# Altium footprint library Bare 1.27mm headers.PcbLib: 13 footprints
Each footprint in its own frame and in the unit in brackets; x right, y up, seen from the top. Pads: shape width x height; smd on the part's side, far side on the other; paste and mask are expansions set on the pad; w line width, h text height; cw(c..) or ccw(c..) is an arc to the next point about the centre after c.
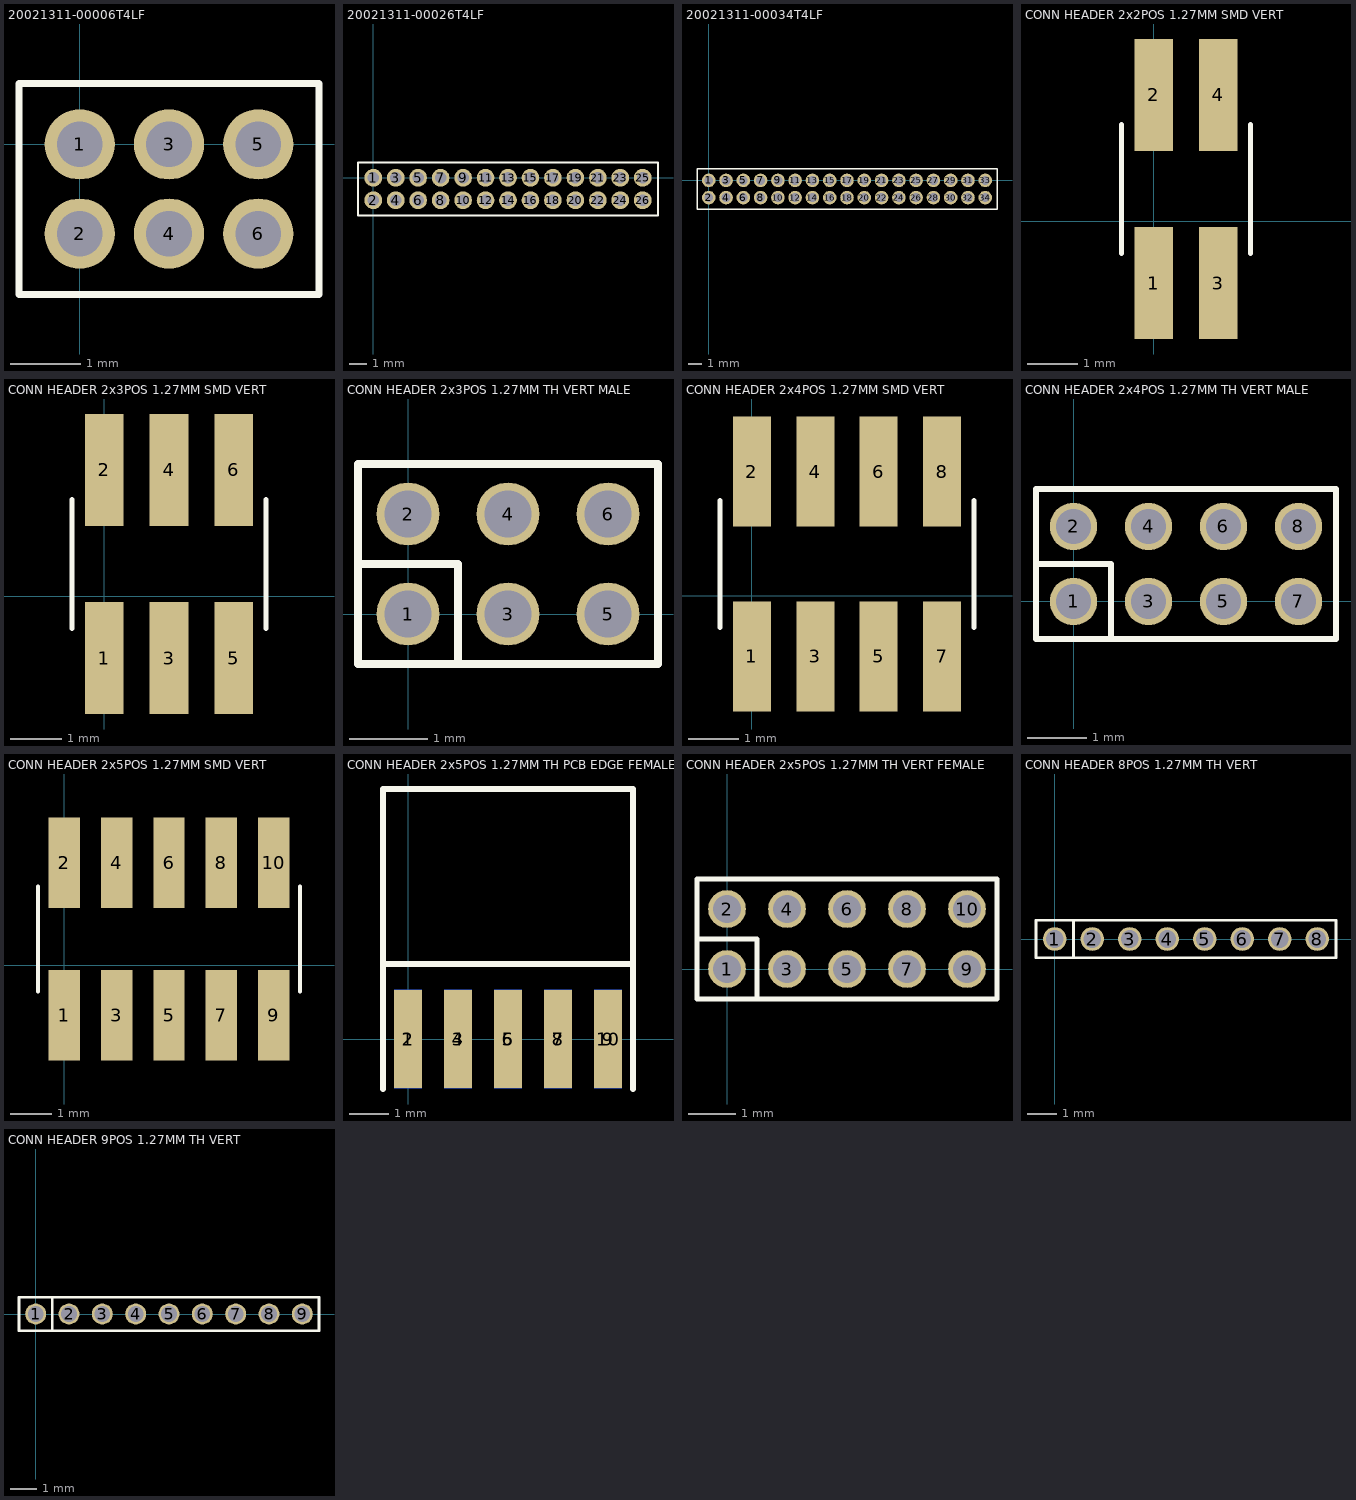
[diagram p0: the footprints below, top view; thin cyan lines are the x and y axes]

## 20021311-00006T4LF [mm] "1.27mm (0.05in.) pitch, Female Receptacle Top entry, 6 contacts Through Hole"
height 4.4
pads (6):
  round 1 hole 0.65: 1(0,0) 2(0,-1.27) 3(1.27,0) 4(1.27,-1.27) 5(2.54,0) 6(2.54,-1.27)
Top Overlay:
  lines w0.1: -0.865,-2.135 -0.865,0.865 3.405,0.865 3.405,-2.135 -0.865,-2.135
3D body "20021311-0006XXLFc.stp": height 4.4, standoff -2.3, extent -0.865,-2.135 3.405,0.865

## 20021311-00026T4LF [mm] "1.27mm (0.05in.) pitch, Female Receptacle Top entry, 26 contacts Through Hole"
height 4.4
pads (26):
  round 1 hole 0.65: 1(0,0) 2(0,-1.27) 3(1.27,0) 4(1.27,-1.27) 5(2.54,0) 6(2.54,-1.27) 7(3.81,0) 8(3.81,-1.27) 9(5.08,0) 10(5.08,-1.27) 11(6.35,0) 12(6.35,-1.27) 13(7.62,0) 14(7.62,-1.27) 15(8.89,0) 16(8.89,-1.27) 17(10.16,0) 18(10.16,-1.27) 19(11.43,0) 20(11.43,-1.27) 21(12.7,0) 22(12.7,-1.27) 23(13.97,0) 24(13.97,-1.27) 25(15.24,0) 26(15.24,-1.27)
Top Overlay:
  lines w0.1: -0.865,-2.135 -0.865,0.865 16.105,0.865 16.105,-2.135 -0.865,-2.135
3D body "20021311-0026XXLFc.stp": height 4.4, standoff -2.3, extent -0.865,-2.135 16.105,0.865

## 20021311-00034T4LF [mm] "1.27mm (0.05in.) pitch, Female Receptacle Top entry, 34 contacts Through Hole"
height 4.4
pads (34):
  round 1 hole 0.65: 1(0,0) 2(0,-1.27) 3(1.27,0) 4(1.27,-1.27) 5(2.54,0) 6(2.54,-1.27) 7(3.81,0) 8(3.81,-1.27) 9(5.08,0) 10(5.08,-1.27) 11(6.35,0) 12(6.35,-1.27) 13(7.62,0) 14(7.62,-1.27) 15(8.89,0) 16(8.89,-1.27) 17(10.16,0) 18(10.16,-1.27) 19(11.43,0) 20(11.43,-1.27) 21(12.7,0) 22(12.7,-1.27) 23(13.97,0) 24(13.97,-1.27) 25(15.24,0) 26(15.24,-1.27) 27(16.51,0) 28(16.51,-1.27) 29(17.78,0) 30(17.78,-1.27) 31(19.05,0) 32(19.05,-1.27) 33(20.32,0) 34(20.32,-1.27)
Top Overlay:
  lines w0.1: -0.865,-2.135 -0.865,0.865 21.185,0.865 21.185,-2.135 -0.865,-2.135
3D body "20021311-0034XXLFc.stp": height 4.4, standoff -2.3, extent -0.865,-2.135 21.185,0.865

## CONN HEADER 2x2POS 1.27MM SMD VERT [mm] "CONN HEADER 2x2POS 1.27MM SMD VERT"
height 5
pads (4):
  rect 0.76x2.2 smd: 1(0,-1.215) 2(0,2.485) 3(1.27,-1.215) 4(1.27,2.485)
Top Overlay:
  lines w0.1: -0.635,-0.635 -0.635,1.905 ; 1.905,-0.635 1.905,1.905
3D body "SMT_2x2_Male.SLDPRT": height 4.5, standoff 0, extent -0.635,-2.115 1.905,3.385

## CONN HEADER 2x3POS 1.27MM SMD VERT [mm] "CONN HEADER 2x3POS 1.27MM SMD VERT"
height 5
pads (6):
  rect 0.76x2.2 smd: 1(0,-1.215) 2(0,2.485) 3(1.27,-1.215) 4(1.27,2.485) 5(2.54,-1.215) 6(2.54,2.485)
Top Overlay:
  lines w0.1: -0.635,-0.635 -0.635,1.905 ; 3.175,-0.635 3.175,1.905
3D body "SMT_2x3_Male.SLDPRT": height 4.5, standoff 0, extent -0.635,-2.115 3.175,3.385

## CONN HEADER 2x3POS 1.27MM TH VERT MALE [mm] "CONN HEADER 2x3POS 1.27MM TH VERT MALE"
height 4
pads (6):
  round 0.8 hole 0.6: 1(0,0) 2(0,1.27) 3(1.27,0) 4(1.27,1.27) 5(2.54,0) 6(2.54,1.27)
Top Overlay:
  lines w0.1: -0.635,0.635 0.635,0.635 0.635,-0.635 ; -0.635,-0.635 3.175,-0.635 3.175,1.905 -0.635,1.905 -0.635,-0.635

## CONN HEADER 2x4POS 1.27MM SMD VERT [mm] "CONN HEADER 2x4POS 1.27MM SMD VERT"
height 5
pads (8):
  rect 0.76x2.2 smd: 1(0,-1.215) 2(0,2.485) 3(1.27,-1.215) 4(1.27,2.485) 5(2.54,-1.215) 6(2.54,2.485) 7(3.81,-1.215) 8(3.81,2.485)
Top Overlay:
  lines w0.1: -0.635,-0.635 -0.635,1.905 ; 4.445,-0.635 4.445,1.905
3D body "SMT_2x4_Male.SLDPRT": height 4.5, standoff 0, extent -0.635,-2.115 4.445,3.385

## CONN HEADER 2x4POS 1.27MM TH VERT MALE [mm] "CONN HEADER 2x4POS 1.27MM TH VERT MALE"
height 4
pads (8):
  round 0.8 hole 0.6: 1(0,0) 2(0,1.27) 3(1.27,0) 4(1.27,1.27) 5(2.54,0) 6(2.54,1.27) 7(3.81,0) 8(3.81,1.27)
Top Overlay:
  lines w0.1: -0.635,0.635 0.635,0.635 0.635,-0.635 ; -0.635,-0.635 4.445,-0.635 4.445,1.905 -0.635,1.905 -0.635,-0.635

## CONN HEADER 2x5POS 1.27MM SMD VERT [mm] "CONN HEADER 2x5POS 1.27MM SMD VERT"
height 5
pads (10):
  rect 0.76x2.2 smd: 1(0,-1.215) 2(0,2.485) 3(1.27,-1.215) 4(1.27,2.485) 5(2.54,-1.215) 6(2.54,2.485) 7(3.81,-1.215) 8(3.81,2.485) 9(5.08,-1.215) 10(5.08,2.485)
Top Overlay:
  lines w0.1: -0.635,-0.635 -0.635,1.905 ; 5.715,-0.635 5.715,1.905
3D body "SMT_2x5_Male.SLDPRT": height 4.5, standoff 0, extent -0.635,-2.115 5.715,3.385

## CONN HEADER 2x5POS 1.27MM TH PCB EDGE FEMALE [mm] "CONN HEADER 2x5POS 1.27MM TH PCB EDGE FEMALE"
height 12
pads (10):
  rect 0.7x2.5 smd: 1(0,0) 3(1.27,0) 5(2.54,0) 7(3.81,0) 9(5.08,0)
  rect 0.7x2.5 smd far side: 2(0,0) 4(1.27,0) 6(2.54,0) 8(3.81,0) 10(5.08,0)
Top Overlay:
  lines w0.15: -0.635,-1.27 -0.635,1.905 ; 5.715,-1.27 5.715,1.905 ; -0.635,1.905 5.715,1.905 ; -0.635,1.905 -0.635,6.35 5.715,6.35 5.715,1.905
Bottom Overlay:
  lines w0.15: -0.635,-1.27 -0.635,1.905 ; 5.715,-1.27 5.715,1.905 ; -0.635,1.905 5.715,1.905 ; -0.635,1.905 -0.635,6.35 5.715,6.35 5.715,1.905

## CONN HEADER 2x5POS 1.27MM TH VERT FEMALE [mm] "CONN HEADER 2x5POS 1.27MM TH VERT FEMALE"
height 4
pads (10):
  round 0.8 hole 0.6: 1(0,0) 2(0,1.27) 3(1.27,0) 4(1.27,1.27) 5(2.54,0) 6(2.54,1.27) 7(3.81,0) 8(3.81,1.27) 9(5.08,0) 10(5.08,1.27)
Top Overlay:
  lines w0.1: -0.635,0.635 0.635,0.635 0.635,-0.635 ; -0.635,-0.635 5.715,-0.635 5.715,1.905 -0.635,1.905 -0.635,-0.635

## CONN HEADER 8POS 1.27MM TH VERT [mm] "CONN HEADER 8POS 1.27MM TH VERT"
height 4
pads (8):
  round 0.8 hole 0.6: 1(0,0) 2(1.27,0) 3(2.54,0) 4(3.81,0) 5(5.08,0) 6(6.35,0) 7(7.62,0) 8(8.89,0)
Top Overlay:
  lines w0.1: 0.635,-0.635 0.635,0.635 ; -0.635,-0.635 9.525,-0.635 9.525,0.635 -0.635,0.635 -0.635,-0.635

## CONN HEADER 9POS 1.27MM TH VERT [mm] "CONN HEADER 9POS 1.27MM TH VERT"
height 4
pads (9):
  round 0.8 hole 0.6: 1(0,0) 2(1.27,0) 3(2.54,0) 4(3.81,0) 5(5.08,0) 6(6.35,0) 7(7.62,0) 8(8.89,0) 9(10.16,0)
Top Overlay:
  lines w0.1: 0.635,-0.635 0.635,0.635 ; -0.635,-0.635 -0.635,0.635 10.795,0.635 10.795,-0.635 -0.635,-0.635